# Altium footprint library INF-PG-TO220-3-31.PcbLib: 1 footprints
Each footprint in its own frame and in the unit in brackets; x right, y up, seen from the top. Pads: shape width x height; smd on the part's side, far side on the other; paste and mask are expansions set on the pad; w line width, h text height; cw(c..) or ccw(c..) is an arc to the next point about the centre after c.
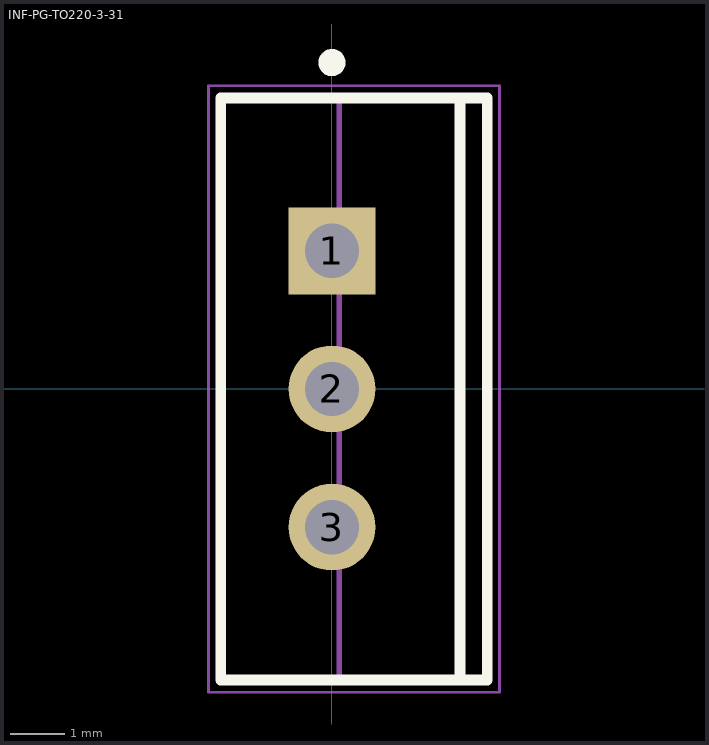
[diagram p0: the footprint, top view; thin cyan lines are the x and y axes]

## INF-PG-TO220-3-31 [mm] "FM, 3-Leads, Body 10.5x4.7mm, Pitch 2.54mm"
height 19.6
pads (3):
  rect 1.6x1.6 hole 1: 1(0,2.54)
  round 1.6 hole 1: 2(0,0) 3(0,-2.54)
Top Overlay:
  circle w0.25: c0,6 r0.125
  lines w0.2: 2.355,-5.35 2.355,5.35 ; -2.045,-5.35 2.855,-5.35 2.855,5.35 -2.045,5.35 -2.045,-5.35
Mechanical 13:
  lines w0.1: 0.13,-5.325 0.13,5.325 ; -2.02,-5.325 -2.02,5.325 2.83,5.325 2.83,-5.325 -2.02,-5.325
Mechanical 15:
  lines w0.05: -2.27,-5.575 -2.27,5.575 3.08,5.575 3.08,-5.575 -2.27,-5.575
  lines w0.1: -0.5,0 0.5,0 ; 0,-0.5 0,0.5
3D body: height 3.15, standoff 0, extent -0.26,1.925 0.26,3.155
3D body: height 0, standoff -1.6, extent -0.26,2.165 0.26,2.915
3D body: height 3.15, standoff 0, extent -0.26,-0.615 0.26,0.615
3D body: height 0, standoff -1.6, extent -0.26,-0.375 0.26,0.375
3D body: height 3.15, standoff 0, extent -0.26,-3.155 0.26,-1.925
3D body: height 0, standoff -1.6, extent -0.26,-2.915 0.26,-2.165
3D body: height 13.3, standoff 3.15, extent -2.02,-5.325 2.83,5.325
3D body: height 14.7, standoff 13.3, extent 0.13,-5.25 2.83,5.25
3D body: height 14.73, standoff 14.7, extent 0.13,0.302 2.83,5.25
3D body: height 14.73, standoff 14.7, extent 0.13,-5.25 2.83,-0.302
3D body: height 17.8, standoff 17.77, extent 0.13,0.302 2.83,5.25
3D body: height 17.8, standoff 17.77, extent 0.13,-5.25 2.83,-0.302
3D body: height 14.82, standoff 14.73, extent 0.13,0.593 2.83,5.25
3D body: height 14.82, standoff 14.73, extent 0.13,-5.25 2.83,-0.593
3D body: height 17.78, standoff 17.68, extent 0.13,0.593 2.83,5.25
3D body: height 17.78, standoff 17.68, extent 0.13,-5.25 2.83,-0.593
3D body: height 14.97, standoff 14.82, extent 0.13,0.861 2.83,5.25
3D body: height 14.97, standoff 14.82, extent 0.13,-5.25 2.83,-0.861
3D body: height 17.69, standoff 17.54, extent 0.13,0.861 2.83,5.25
3D body: height 17.69, standoff 17.54, extent 0.13,-5.25 2.83,-0.861
3D body: height 15.16, standoff 14.96, extent 0.13,1.096 2.83,5.25
3D body: height 15.16, standoff 14.96, extent 0.13,-5.25 2.83,-1.096
3D body: height 17.54, standoff 17.35, extent 0.13,1.096 2.83,5.25
3D body: height 17.54, standoff 17.35, extent 0.13,-5.25 2.83,-1.096
3D body: height 15.39, standoff 15.15, extent 0.13,1.289 2.83,5.25
3D body: height 15.39, standoff 15.15, extent 0.13,-5.25 2.83,-1.289
3D body: height 17.35, standoff 17.11, extent 0.13,1.289 2.83,5.25
3D body: height 17.35, standoff 17.11, extent 0.13,-5.25 2.83,-1.289
3D body: height 15.66, standoff 15.39, extent 0.13,1.432 2.83,5.25
3D body: height 15.66, standoff 15.39, extent 0.13,-5.25 2.83,-1.432
3D body: height 17.12, standoff 16.84, extent 0.13,1.432 2.83,5.25
3D body: height 17.12, standoff 16.84, extent 0.13,-5.25 2.83,-1.432
3D body: height 15.95, standoff 15.66, extent 0.13,1.52 2.83,5.25
3D body: height 15.95, standoff 15.66, extent 0.13,-5.25 2.83,-1.52
3D body: height 16.85, standoff 16.55, extent 0.13,1.52 2.83,5.25
3D body: height 16.85, standoff 16.55, extent 0.13,-5.25 2.83,-1.52
3D body: height 16.25, standoff 15.95, extent 0.13,1.55 2.83,5.25
3D body: height 16.25, standoff 15.95, extent 0.13,-5.25 2.83,-1.55
3D body: height 16.56, standoff 16.25, extent 0.13,1.55 2.83,5.25
3D body: height 16.56, standoff 16.25, extent 0.13,-5.25 2.83,-1.55
3D body: height 19.6, standoff 17.8, extent 0.13,-5.25 2.83,5.25